# Altium schematic symbol library Skyworks.SchLib: 1 symbol
Pins are listed as number, name and electrical type; pins without a type are passive.

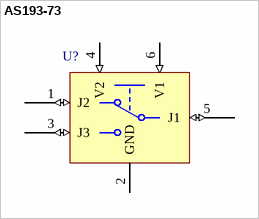
[diagram p0: symbol AS193-73]

## AS193-73
designator U?  (value not drawn)
PHEMT GaAs IC High-Linearity 3 V  Control SPDT Switch 0.1–2.5 GHz
pins: 1 J2 (io), 2 GND (power), 3 J3 (io), 4 V2 (in), 5 J1 (io), 6 V1 (in)